# Altium footprint library Motor-Header2.PcbLib: 1 footprints
Each footprint in its own frame and in the unit in brackets; x right, y up, seen from the top. Pads: shape width x height; smd on the part's side, far side on the other; paste and mask are expansions set on the pad; w line width, h text height; cw(c..) or ccw(c..) is an arc to the next point about the centre after c.
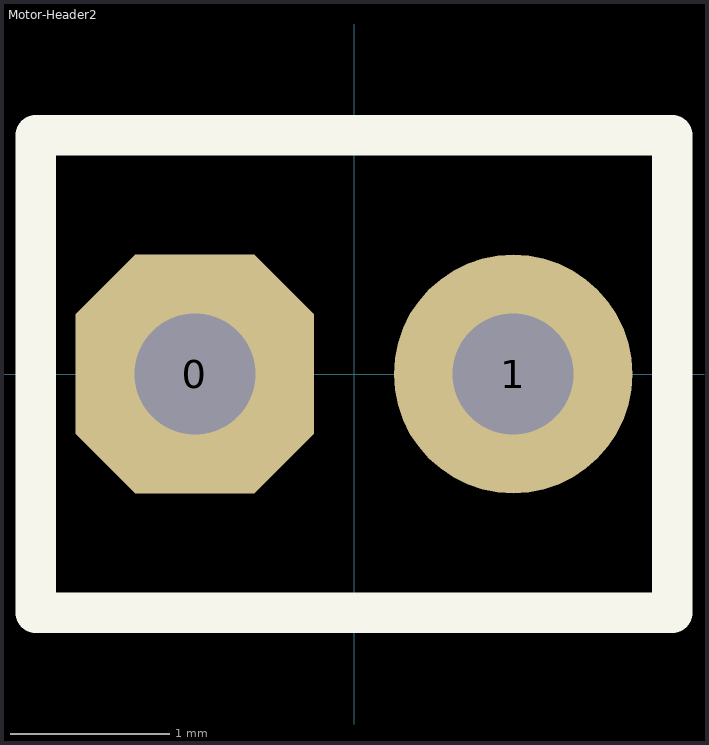
[diagram p0: the footprint, top view; thin cyan lines are the x and y axes]

## Motor-Header2 [mm]
pads (2):
  oct 1.5x1.5 hole 0.762: 0(-1,0)
  round 1.5 hole 0.762: 1(1,0)
Top Overlay:
  lines w0.254: -2,-1.5 -2,1.5 2,1.5 2,-1.5 -2,-1.5